# Altium schematic symbol library SCH - DRIVER - LED - TI LM3435_RSB_40.SchLib: 1 symbol
Pins are listed as number, name and electrical type; pins without a type are passive.

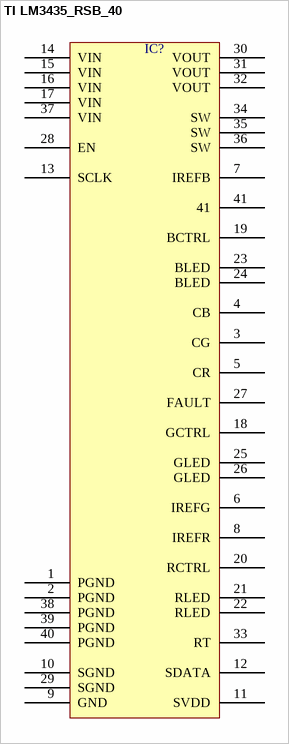
[diagram p0: symbol TI LM3435_RSB_40]

## TI LM3435_RSB_40
designator IC?  (value not drawn)
pins: 1 PGND, 2 PGND, 3 CG, 4 CB, 5 CR, 6 IREFG, 7 IREFB, 8 IREFR, 9 GND, 10 SGND, 11 SVDD, 12 SDATA, 13 SCLK, 14 VIN, 15 VIN, 16 VIN, 17 VIN, 18 GCTRL, 19 BCTRL, 20 RCTRL, 21 RLED, 22 RLED, 23 BLED, 24 BLED, 25 GLED, 26 GLED, 27 FAULT, 28 EN, 29 SGND, 30 VOUT, 31 VOUT, 32 VOUT, 33 RT, 34 SW, 35 SW, 36 SW, 37 VIN, 38 PGND, 39 PGND, 40 PGND, 41